# EAGLE library part CJMCU-711 (library ipas)
CJMCU-711 HX711 module
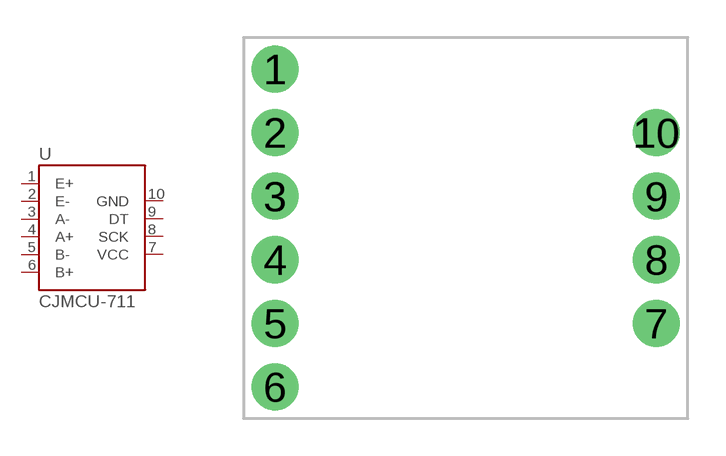
[diagram p45: symbol with the pads of CJMCU-711; footprint CJMCU-711]

Designator prefix U

## CJMCU-711  [CJMCU-711]
1  E+
2  E-
3  A-
4  A+
5  B-
6  B+
7  VCC
8  SCK
9  DT
10  GND

## Footprint CJMCU-711 (pad centres in mm)
drill 1.016 pad 1.88: 1 -7.62,6.35; 2 -7.62,3.81; 3 -7.62,1.27; 4 -7.62,-1.27; 5 -7.62,-3.81; 6 -7.62,-6.35; 7 7.62,-3.81; 8 7.62,-1.27; 9 7.62,1.27; 10 7.62,3.81